# Altium footprint library HDMI_Mini-HDMI.PcbLib: 5 footprints
Each footprint in its own frame and in the unit in brackets; x right, y up, seen from the top. Pads: shape width x height; smd on the part's side, far side on the other; paste and mask are expansions set on the pad; w line width, h text height; cw(c..) or ccw(c..) is an arc to the next point about the centre after c.
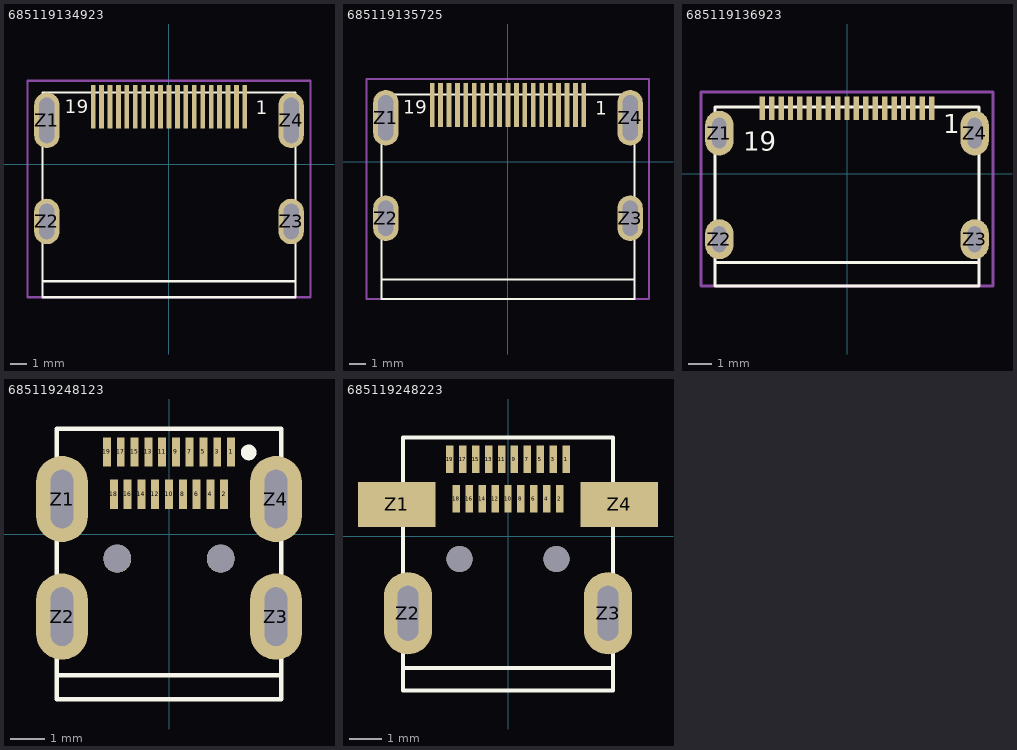
[diagram p0: the footprints below, top view; thin cyan lines are the x and y axes]

## 685119134923 [mm] "19 pins"
height 6.13
pads (23):
  rect 0.28x2.6 smd: 1(4.5,3.4) 2(4,3.4) 3(3.5,3.4) 4(3,3.4) 5(2.5,3.4) 6(2,3.4) 7(1.5,3.4) 8(1,3.4) 9(0.5,3.4) 10(0,3.4) 11(-0.5,3.4) 12(-1,3.4) 13(-1.5,3.4) 14(-2,3.4) 15(-2.5,3.4) 16(-3,3.4) 17(-3.5,3.4) 18(-4,3.4) 19(-4.5,3.4)
  oval 1.5x3.3 hole 0.9 slot 2.7 at 90 deg: Z1(-7.25,2.6) Z4(7.25,2.6)
  oval 1.5x2.7 hole 0.9 slot 2.1 at 90 deg: Z2(-7.25,-3.4) Z3(7.25,-3.4)
Top Overlay:
  lines w0.127: -7.5,-6.95 -7.5,-7.9 7.5,-7.9 7.5,-6.95 ; -7.5,-6.95 7.5,-6.95 ; -7.5,-6.95 -7.5,4.25 7.5,4.25 7.5,-6.95
  text "1" at 5.14,2.96 h0.8
  text "19" at -6.18,3.01 h0.8
Mechanical 15:
  lines w0.127: -8.4,-7.9 8.4,-7.9 8.4,4.95 -8.4,4.95 -8.4,-7.9
3D body: height 6.24, standoff -2.14, extent -7.5,-7.9 7.5,4.25

## 685119135725 [mm] "19p + M3 flange"
height 6.13
pads (23):
  rect 0.28x2.6 smd: 1(4.5,3.36) 2(4,3.36) 3(3.5,3.36) 4(3,3.36) 5(2.5,3.36) 6(2,3.36) 7(1.5,3.36) 8(1,3.36) 9(0.5,3.36) 10(0,3.36) 11(-0.5,3.36) 12(-1,3.36) 13(-1.5,3.36) 14(-2,3.36) 15(-2.5,3.36) 16(-3,3.36) 17(-3.5,3.36) 18(-4,3.36) 19(-4.5,3.36)
  oval 1.5x3.3 hole 0.9 slot 2.7 at 90 deg: Z1(-7.25,2.6) Z4(7.25,2.6)
  oval 1.5x2.7 hole 0.9 slot 2.1 at 90 deg: Z2(-7.25,-3.36) Z3(7.25,-3.36)
Top Overlay:
  lines w0.127: -7.5,-6.99 -7.5,-8.16 7.5,-8.16 7.5,-6.99 ; -7.5,-6.99 -7.5,3.99 7.5,3.99 7.5,-6.99 ; -7.5,-6.99 7.5,-6.99
  text "19" at -6.22,2.84 h0.8
  text "1" at 5.18,2.78 h0.8
Mechanical 15:
  lines w0.127: -8.39,-8.16 -8.39,4.91 8.36,4.91 8.36,-8.16 -8.39,-8.16
3D body: height 16.06, standoff -2.19, extent -7.5,-8.16 7.5,3.99

## 685119136923 [mm] "19p"
height 3.3
pads (23):
  rect 0.23x1 smd: 1(3.6,2.78) 2(3.2,2.78) 3(2.8,2.78) 4(2.4,2.78) 5(2,2.78) 6(1.6,2.78) 7(1.2,2.78) 8(0.8,2.78) 9(0.4,2.78) 10(0,2.78) 11(-0.4,2.78) 12(-0.8,2.78) 13(-1.2,2.78) 14(-1.6,2.78) 15(-2,2.78) 16(-2.4,2.78) 17(-2.8,2.78) 18(-3.2,2.78) 19(-3.6,2.78)
  oval 1.2x1.9 hole 0.6 slot 1.3 at 90 deg: Z1(-5.425,1.73) Z4(5.425,1.73)
  oval 1.2x1.7 hole 0.6 slot 1.1 at 90 deg: Z2(-5.425,-2.78) Z3(5.425,-2.78)
Top Overlay:
  lines w0.127: -5.6,-3.77 -5.6,2.83 5.6,2.83 5.6,-3.77 ; -5.6,-3.77 -5.6,-4.77 5.6,-4.77 5.6,-3.77 ; -5.6,-3.77 5.6,-3.77
  text "1" at 4.1,1.73 h0.8
  text "19" at -4.4,0.98 h0.8
Mechanical 15:
  lines w0.127: -6.2,-4.77 6.2,-4.77 6.2,-4.07 6.2,3.48 -6.2,3.48 -6.2,-4.07 -6.2,-4.77
3D body: height 3.26, standoff -2.19, extent -5.6,-4.77 5.6,3.13

## 685119248123 [mm] "Receptacle THT shell tabs"
height 3
pads (25):
  rect 0.23x0.85 smd: 1(1.8,2.387) 2(1.6,1.162) 3(1.4,2.387) 4(1.2,1.162) 5(1,2.387) 6(0.8,1.162) 7(0.6,2.387) 8(0.4,1.162) 9(0.2,2.387) 10(0,1.162) 11(-0.2,2.387) 12(-0.4,1.162) 13(-0.6,2.387) 14(-0.8,1.162) 15(-1,2.387) 16(-1.2,1.162) 17(-1.4,2.387) 18(-1.6,1.162) 19(-1.8,2.387)
  oval 1.5x2.5 hole 0.65 slot 1.7 at 90 deg: Z1(-3.1,1.022) Z2(-3.1,-2.387) Z3(3.1,-2.387) Z4(3.1,1.022)
  round 0.81 hole 0.81 unplated: ""(-1.5,-0.708) ""(1.5,-0.708)
Top Overlay:
  circle w0.254: c2.31,2.373 r0.1
  lines w0.127: -3.25,-4.782 -3.25,-4.082 ; -3.25,-4.087 3.25,-4.087 ; 3.25,-4.782 3.25,-4.082 ; -3.25,-4.788 -3.25,3.063 3.25,3.063 3.25,-4.788 ; -3.25,-4.788 3.25,-4.788 ; -3.25,-4.788 3.25,-4.788
3D body: height 3.01, standoff -0.99, extent -3.25,-4.782 3.25,2.723

## 685119248223 [mm] "Receptacle Hybird Mount consist of Vertical and Horizontal Type shell tabs"
height 3
pads (25):
  rect 0.23x0.85 smd: 1(1.8,2.387) 2(1.6,1.162) 3(1.4,2.387) 4(1.2,1.162) 5(1,2.387) 6(0.8,1.162) 7(0.6,2.387) 8(0.4,1.162) 9(0.2,2.387) 10(0,1.162) 11(-0.2,2.387) 12(-0.4,1.162) 13(-0.6,2.387) 14(-0.8,1.162) 15(-1,2.387) 16(-1.2,1.162) 17(-1.4,2.387) 18(-1.6,1.162) 19(-1.8,2.387)
  rect 2.4x1.38 smd: Z1(-3.45,0.982) Z4(3.45,0.982)
  oval 1.5x2.55 hole 0.65 slot 1.7 at 90 deg: Z2(-3.1,-2.387) Z3(3.1,-2.387)
  round 0.81 hole 0.81 unplated: ""(-1.5,-0.708) ""(1.5,-0.708)
Top Overlay:
  lines w0.127: -3.25,-4.783 -3.25,-4.083 ; -3.25,-4.087 3.25,-4.087 ; 3.25,-4.783 3.25,-4.083 ; -3.25,-4.787 3.25,-4.787 ; -3.25,-4.787 -3.25,3.063 3.25,3.063 3.25,-4.787 ; -3.25,-4.787 3.25,-4.787
3D body: height 3.01, standoff -0.99, extent -4.419,-4.787 4.399,2.718